# Altium footprint library DMN2230UQ-7.PcbLib: 3 footprints
Each footprint in its own frame and in the unit in brackets; x right, y up, seen from the top. Pads: shape width x height; smd on the part's side, far side on the other; paste and mask are expansions set on the pad; w line width, h text height; cw(c..) or ccw(c..) is an arc to the next point about the centre after c.
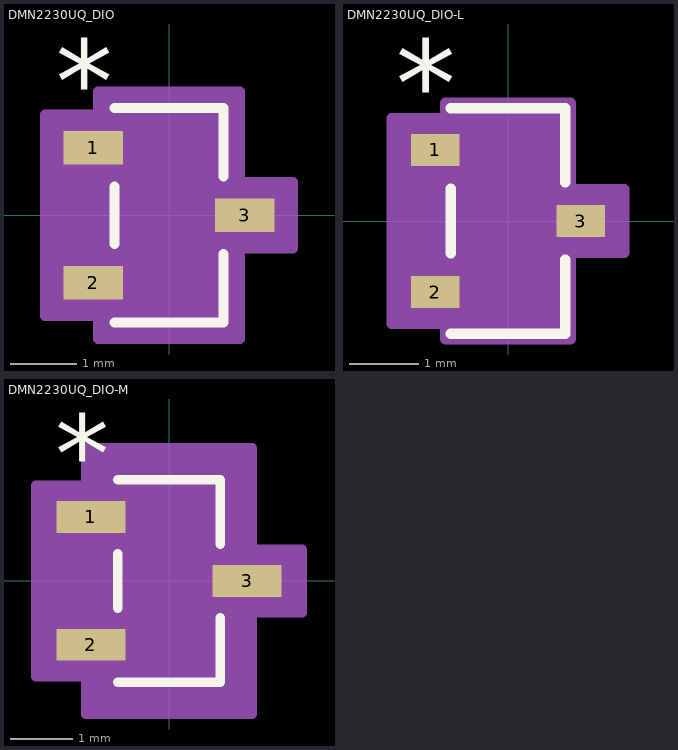
[diagram p0: the footprints below, top view; thin cyan lines are the x and y axes]

## DMN2230UQ_DIO [mil]
pads (3):
  rect 35.5x20 smd paste+0 mask+0: 1(-45.25,40.35) 2(-45.25,-40.35) 3(45.25,0)
Top Overlay:
  lines w6: -32.5,-64 32.5,-64 32.5,-23.1 ; -32.5,-17.25 -32.5,17.25 ; -32.5,64 32.5,64 32.5,23.1
  text "*" at -67.75,55.35 h50
Mechanical 13:
  lines w0: -12,59 ccw(c0,59) 12,59
  lines w1: -49,-50.35 -49,-30.35 -27.5,-30.35 -27.5,-50.35 -49,-50.35 ; -49,30.35 -49,50.35 -27.5,50.35 -27.5,30.35 -49,30.35 ; -27.5,-59 27.5,-59 27.5,59 -27.5,59 -27.5,-59 ; 27.5,-10 27.5,10 49,10 49,-10 27.5,-10
  text "*" at -30,12.35 h50
Mechanical 15:
  region: 42.5,-74 -42.5,-74 -42.5,-60.35 -74,-60.35 -74,60.35 -42.5,60.35 -42.5,74 42.5,74 42.5,20 74,20 74,-20 42.5,-20
  lines w6: -74,-60.35 -42.5,-60.35 -42.5,-74 42.5,-74 42.5,-20 74,-20 74,20 42.5,20 42.5,74 -42.5,74 -42.5,60.35 -74,60.35 -74,-60.35
3D body "DMN2230UQ_DIO.step": height 43.11, standoff 0, extent -49.02,-59.02 49.02,59.02

## DMN2230UQ_DIO-L [mil]
pads (3):
  rect 27.5x18 smd paste+0 mask+0: 1(-41.25,40.35) 2(-41.25,-40.35) 3(41.25,0)
Top Overlay:
  lines w6: -32.5,-64 32.5,-64 32.5,-22.1 ; -32.5,-18.25 -32.5,18.25 ; -32.5,64 32.5,64 32.5,22.1
  text "*" at -63.75,53.35 h50
Mechanical 13:
  lines w0: -12,59 ccw(c0,59) 12,59
  lines w1: -49,-50.35 -49,-30.35 -27.5,-30.35 -27.5,-50.35 -49,-50.35 ; -49,30.35 -49,50.35 -27.5,50.35 -27.5,30.35 -49,30.35 ; -27.5,-59 27.5,-59 27.5,59 -27.5,59 -27.5,-59 ; 27.5,-10 27.5,10 49,10 49,-10 27.5,-10
  text "*" at -30,10.35 h50
Mechanical 15:
  region: 35.5,-67 -35.5,-67 -35.5,-58.35 -66,-58.35 -66,58.35 -35.5,58.35 -35.5,67 35.5,67 35.5,18 66,18 66,-18 35.5,-18
  lines w6: -66,-58.35 -35.5,-58.35 -35.5,-67 35.5,-67 35.5,-18 66,-18 66,18 35.5,18 35.5,67 -35.5,67 -35.5,58.35 -66,58.35 -66,-58.35
3D body "DMN2230UQ_DIO.step": height 43.11, standoff 0, extent -49.02,-59.02 49.02,59.02

## DMN2230UQ_DIO-M [mil]
pads (3):
  rect 43.5x20 smd paste+0 mask+0: 1(-49.25,40.35) 2(-49.25,-40.35) 3(49.25,0)
Top Overlay:
  lines w6: -32.5,-64 32.5,-64 32.5,-23.1 ; -32.5,-17.25 -32.5,17.25 ; -32.5,64 32.5,64 32.5,23.1
  text "*" at -71.75,55.35 h50
Mechanical 13:
  lines w0: -12,59 ccw(c0,59) 12,59
  lines w1: -49,-50.35 -49,-30.35 -27.5,-30.35 -27.5,-50.35 -49,-50.35 ; -49,30.35 -49,50.35 -27.5,50.35 -27.5,30.35 -49,30.35 ; -27.5,-59 27.5,-59 27.5,59 -27.5,59 -27.5,-59 ; 27.5,-10 27.5,10 49,10 49,-10 27.5,-10
  text "*" at -30,12.35 h50
Mechanical 15:
  region: 52.5,-84 -52.5,-84 -52.5,-60.35 -84,-60.35 -84,60.35 -52.5,60.35 -52.5,84 52.5,84 52.5,20 84,20 84,-20 52.5,-20
  lines w6: -84,-60.35 -52.5,-60.35 -52.5,-84 52.5,-84 52.5,-20 84,-20 84,20 52.5,20 52.5,84 -52.5,84 -52.5,60.35 -84,60.35 -84,-60.35
3D body "DMN2230UQ_DIO.step": height 43.11, standoff 0, extent -49.02,-59.02 49.02,59.02